# EAGLE library part MOLEX_SL_25 (library molex-sl-connectors_jw)
Molex SL-Series PCB Header, 25-Pos, 0.1" (2.54mm) Centers
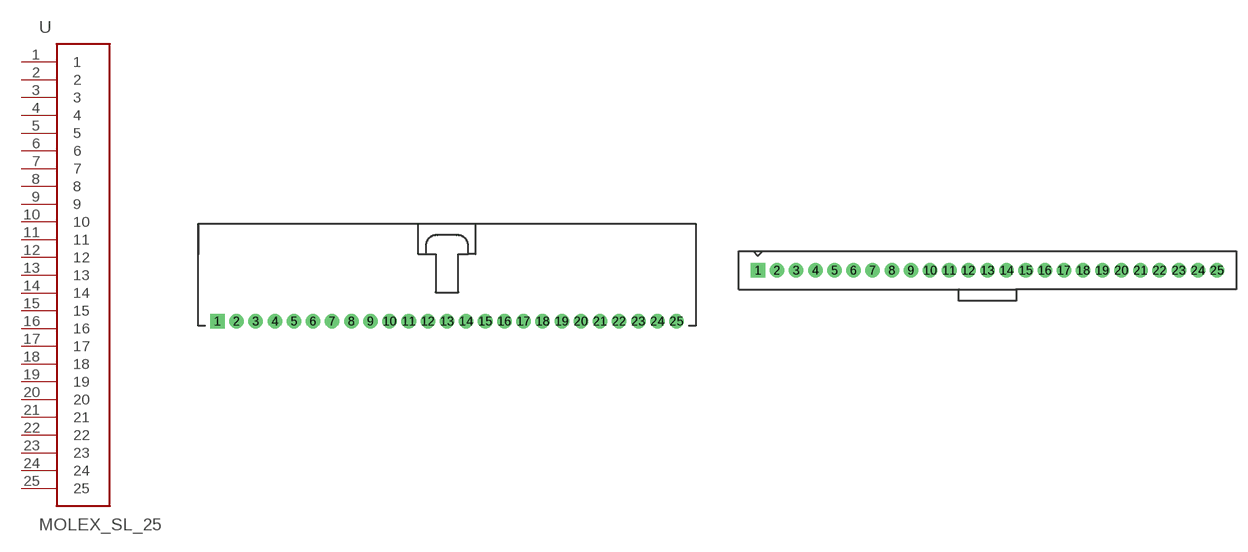
[diagram p19: symbol with the pads of SL_70553_25; footprints SL_70553_25, SL_70543_25]

Designator prefix -

## MOLEX_SL_25-70553  [SL_70553_25]
1  1
2  2
3  3
4  4
5  5
6  6
7  7
8  8
9  9
10  10
11  11
12  12
13  13
14  14
15  15
16  16
17  17
18  18
19  19
20  20
21  21
22  22
23  23
24  24
25  25

## MOLEX_SL_25-70543-74095  [SL_70543_25]
Pads as for SL_70553_25

## MOLEX_SL_25-70541-70545  [SL_70541_25]
Pads as for SL_70553_25

## MOLEX_SL_25-70551  [SL_70551_25]
Pads as for SL_70553_25

## MOLEX_SL_25-70555  [SL_70555_25]
Pads as for SL_70553_25

## MOLEX_SL_25-70634  [SL_70634_25]
Pads as for SL_70553_25

## MOLEX_SL_25-87898  [SL_87898_25]
Pads as for SL_70553_25

## Footprint SL_70553_25 (pad centres in mm)
Right-Angle Header w/ Latch (no pegs) 70553-0024 70553-0059 70553-0129 70553-0164
drill 1.1 pad 1.93 square: 1 -30.48,-5.08
drill 1.1 pad 1.93: 2 -27.94,-5.08; 3 -25.4,-5.08; 4 -22.86,-5.08; 5 -20.32,-5.08; 6 -17.78,-5.08; 7 -15.24,-5.08; 8 -12.7,-5.08; 9 -10.16,-5.08; 10 -7.62,-5.08; 11 -5.08,-5.08; 12 -2.54,-5.08; 13 0,-5.08; 14 2.54,-5.08; 15 5.08,-5.08; 16 7.62,-5.08; 17 10.16,-5.08; 18 12.7,-5.08; 19 15.24,-5.08; 20 17.78,-5.08; 21 20.32,-5.08; 22 22.86,-5.08; 23 25.4,-5.08; 24 27.94,-5.08; 25 30.48,-5.08

## Footprint SL_70543_25 (pad centres in mm)
Vertical Header w/ Latch & Optional Compliant Pins (no pegs) Normal Pins: 70543-0024 70543-0059 70543-0094 70543-0129 70543-0164 70543-0188 70543-0223 70543-0271 70543-0295 70543-0319 Compliant Pins 74095-0025 74095-0055 74095-0085 74095-1055 74095-1085
drill 1.1 pad 1.93 square: 1 -30.48,1.27
drill 1.1 pad 1.93: 2 -27.94,1.27; 3 -25.4,1.27; 4 -22.86,1.27; 5 -20.32,1.27; 6 -17.78,1.27; 7 -15.24,1.27; 8 -12.7,1.27; 9 -10.16,1.27; 10 -7.62,1.27; 11 -5.08,1.27; 12 -2.54,1.27; 13 0,1.27; 14 2.54,1.27; 15 5.08,1.27; 16 7.62,1.27; 17 10.16,1.27; 18 12.7,1.27; 19 15.24,1.27; 20 17.78,1.27; 21 20.32,1.27; 22 22.86,1.27; 23 25.4,1.27; 24 27.94,1.27; 25 30.48,1.27

## Footprint SL_70541_25 (pad centres in mm)
Vertical Header w/ Latch & Pegs With Split Pegs: 70541-0024 70541-0059 70541-0094 With Tri-Pegs: 70545-0024 70545-0059 70545-0094 70545-3024 70545-3074 70545-3124
drill 1.1 pad 1.93 square: 1 -30.48,1.27
drill 1.1 pad 1.93: 2 -27.94,1.27; 3 -25.4,1.27; 4 -22.86,1.27; 5 -20.32,1.27; 6 -17.78,1.27; 7 -15.24,1.27; 8 -12.7,1.27; 9 -10.16,1.27; 10 -7.62,1.27; 11 -5.08,1.27; 12 -2.54,1.27; 13 0,1.27; 14 2.54,1.27; 15 5.08,1.27; 16 7.62,1.27; 17 10.16,1.27; 18 12.7,1.27; 19 15.24,1.27; 20 17.78,1.27; 21 20.32,1.27; 22 22.86,1.27; 23 25.4,1.27; 24 27.94,1.27; 25 30.48,1.27
hole 3.404 at -34.544,0.508
hole 3.404 at 34.544,0.508

## Footprint SL_70551_25 (pad centres in mm)
Right-Angle Header w/ Latch & Split Pegs 70551-0024 70551-0059 70551-0094
drill 1.1 pad 1.93 square: 1 -30.48,-5.08
drill 1.1 pad 1.93: 2 -27.94,-5.08; 3 -25.4,-5.08; 4 -22.86,-5.08; 5 -20.32,-5.08; 6 -17.78,-5.08; 7 -15.24,-5.08; 8 -12.7,-5.08; 9 -10.16,-5.08; 10 -7.62,-5.08; 11 -5.08,-5.08; 12 -2.54,-5.08; 13 0,-5.08; 14 2.54,-5.08; 15 5.08,-5.08; 16 7.62,-5.08; 17 10.16,-5.08; 18 12.7,-5.08; 19 15.24,-5.08; 20 17.78,-5.08; 21 20.32,-5.08; 22 22.86,-5.08; 23 25.4,-5.08; 24 27.94,-5.08; 25 30.48,-5.08
hole 3.404 at -31.75,3.556
hole 3.404 at 31.75,3.556

## Footprint SL_70555_25 (pad centres in mm)
Right-Angle Header w/ Latch & Tri-Pegs 70555-0024 70555-0059 70555-0094 70555-5024
drill 1.1 pad 1.93 square: 1 -30.48,-5.08
drill 1.1 pad 1.93: 2 -27.94,-5.08; 3 -25.4,-5.08; 4 -22.86,-5.08; 5 -20.32,-5.08; 6 -17.78,-5.08; 7 -15.24,-5.08; 8 -12.7,-5.08; 9 -10.16,-5.08; 10 -7.62,-5.08; 11 -5.08,-5.08; 12 -2.54,-5.08; 13 0,-5.08; 14 2.54,-5.08; 15 5.08,-5.08; 16 7.62,-5.08; 17 10.16,-5.08; 18 12.7,-5.08; 19 15.24,-5.08; 20 17.78,-5.08; 21 20.32,-5.08; 22 22.86,-5.08; 23 25.4,-5.08; 24 27.94,-5.08; 25 30.48,-5.08
hole 3.404 at -31.877,3.556
hole 3.404 at 31.877,3.556

## Footprint SL_70634_25 (pad centres in mm)
SMD Right-Angle Header w/ Latch & PCB Pegs 70634-0024 70634-0059 70634-0094 70634-0129 70634-0164 70634-0199 70634-0225
smd 1.651 x 5.334: 1 -30.48,-7.62; 2 -27.94,-7.62; 3 -25.4,-7.62; 4 -22.86,-7.62; 5 -20.32,-7.62; 6 -17.78,-7.62; 7 -15.24,-7.62; 8 -12.7,-7.62; 9 -10.16,-7.62; 10 -7.62,-7.62; 11 -5.08,-7.62; 12 -2.54,-7.62; 13 0,-7.62; 14 2.54,-7.62; 15 5.08,-7.62; 16 7.62,-7.62; 17 10.16,-7.62; 18 12.7,-7.62; 19 15.24,-7.62; 20 17.78,-7.62; 21 20.32,-7.62; 22 22.86,-7.62; 23 25.4,-7.62; 24 27.94,-7.62; 25 30.48,-7.62
hole 3.404 at -31.902,3.048
hole 3.404 at 31.877,3.099

## Footprint SL_87898_25 (pad centres in mm)
SMD Vertical Header (no latch or pegs) Package also includes Pick-N-Place Cap Tube packaging w/o Pick-N-Place Cap: 87898-2521 87898-2522 87898-2524 87898-2525 87898-2526 Tube packaging w/ Pick-N-Place Cap: 87898-2531 87898-2532 87898-2534 87898-2535 87898-2536
smd 1.27 x 2.946: 1 -30.48,1.803; 2 -27.94,-1.803; 3 -25.4,1.803; 4 -22.86,-1.803; 5 -20.32,1.803; 6 -17.78,-1.803; 7 -15.24,1.803; 8 -12.7,-1.803; 9 -10.16,1.803; 10 -7.62,-1.803; 11 -5.08,1.803; 12 -2.54,-1.803; 13 0,1.803; 14 2.54,-1.803; 15 5.08,1.803; 16 7.62,-1.803; 17 10.16,1.803; 18 12.7,-1.803; 19 15.24,1.803; 20 17.78,-1.803; 21 20.32,1.803; 22 22.86,-1.803; 23 25.4,1.803; 24 27.94,-1.803; 25 30.48,1.803